# Altium integrated library Motorola RF Amplifier.IntLib: 5 symbols
Pins are listed as number, name and electrical type; pins without a type are passive.

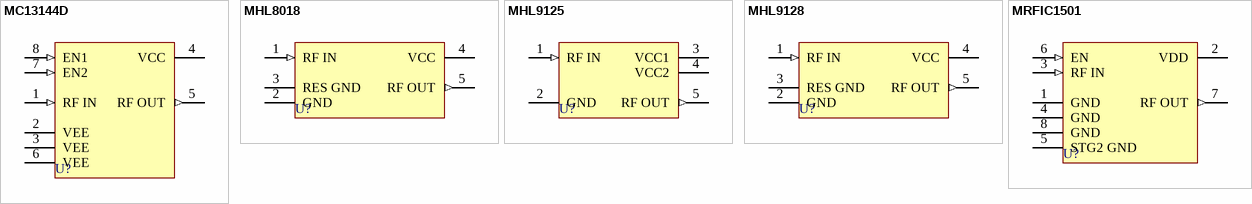
[diagram p0: symbols MC13144D to MRFIC1501]

## MC13144D
designator U?
VHF - 2.0 GHz Low-Noise Amplifier with Programmable Bias; Published: 28-Feb-2003; LatestRevisionDate: 13-Apr-2006; LatestRevisionNote: IPC-7351 Footprint Added.; DatasheetVersion: 1998, Rev. 1; PackageVersion: Sep-1999; PackageReference: 751-06; Publisher: Altium Limited; PackageDescription: 8-Pin Small Outline Integrated Circuit 1.27 mm Pitch; Code_JEDEC: MS-012-AA; Code_IPC: SOIC127P600-8; ComponentLink1Description: Manufacturer Link; ComponentLink1URL: http://www.freescale.com/webapp/sps/site/homepage.jsp?nodeId=014359
footprint 751-06_N (SOIC, 8-Leads, Body 4.9x3.9mm, Pitch 1.27mm, IPC Medium Density)
footprint 751-06_L (SOIC, 8-Leads, Body 4.9x3.9mm, Pitch 1.27mm, IPC High Density)
footprint 751-06_M (SOIC, 8-Leads, Body 4.9x3.9mm, Pitch 1.27mm, IPC Low Density)
3D model 751-06 (8-Pin Small Outline Integrated Circuit 1.27 mm Pitch)
pins: 1 RF IN (in), 2 VEE (power), 3 VEE (power), 4 VCC (power), 5 RF OUT (out), 6 VEE (power), 7 EN2 (in), 8 EN1 (in)

## MHL8018
designator U?
UHF Linear Amplifier; ComponentAvailability: Obsolete; Published: 28-Feb-2003; DatasheetVersion: 1999, Rev. 2; PackageVersion: rev2, 1999; PackageReference: 448-02; Publisher: Altium Limited; PackageDescription: Rectangular Flange Mount, Thru-Hole; 5 Leads; Pitch 5.08 mm; ComponentLink1Description: Manufacturer Link; ComponentLink1URL: http://www.freescale.com/webapp/sps/site/homepage.jsp?nodeId=014359; ComponentLink2Description: Datasheet; ComponentLink2URL: http://www.freescale.com/files/archives/doc/data_sheet/MHL8018_D.pdf
footprint 448-02 (Rectangular Flange Mount, Thru-Hole; 5 Leads; Pitch 5.08 mm)
pins: 1 RF IN (in), 2 GND (power), 3 RES GND, 4 VCC (power), 5 RF OUT (out)

## MHL9125
designator U?
UHF Linear Amplifier; ComponentAvailability: Obsolete; Published: 28-Feb-2003; DatasheetVersion: 1998, Rev. 2; PackageVersion: rev2, 1999; PackageReference: 448-02; Publisher: Altium Limited; PackageDescription: Rectangular Flange Mount, Thru-Hole; 5 Leads; Pitch 5.08 mm; ComponentLink1Description: Manufacturer Link; ComponentLink1URL: http://www.freescale.com/webapp/sps/site/homepage.jsp?nodeId=014359; ComponentLink2Description: Datasheet; ComponentLink2URL: http://www.freescale.com/files/archives/doc/data_sheet/MHL9125_D.pdf
footprint 448-02 (Rectangular Flange Mount, Thru-Hole; 5 Leads; Pitch 5.08 mm)
pins: 1 RF IN (in), 2 GND (power), 3 VCC1 (power), 4 VCC2 (power), 5 RF OUT (out)

## MHL9128
designator U?
UHF Linear Amplifier; ComponentAvailability: Obsolete; Published: 28-Feb-2003; DatasheetVersion: 1998, Rev. 2; PackageVersion: rev2, 1999; PackageReference: 448-02; Publisher: Altium Limited; PackageDescription: Rectangular Flange Mount, Thru-Hole; 5 Leads; Pitch 5.08 mm; ComponentLink1Description: Manufacturer Link; ComponentLink1URL: http://www.freescale.com/webapp/sps/site/homepage.jsp?nodeId=014359; ComponentLink2Description: Datasheet; ComponentLink2URL: http://www.freescale.com/files/archives/doc/data_sheet/MHL9128_D.pdf
footprint 448-02 (Rectangular Flange Mount, Thru-Hole; 5 Leads; Pitch 5.08 mm)
pins: 1 RF IN (in), 2 GND (power), 3 RES GND, 4 VCC (power), 5 RF OUT (out)

## MRFIC1501
designator U?
GPS GaAs Low-Noise Amplifier; Published: 28-Feb-2003; LatestRevisionDate: 13-Apr-2006; LatestRevisionNote: IPC-7351 Footprint Added.; DatasheetVersion: 1998, Rev. 2; PackageVersion: Sep-1999; PackageReference: 751-06; Publisher: Altium Limited; PackageDescription: 8-Pin Small Outline Integrated Circuit 1.27 mm Pitch; Code_JEDEC: MS-012-AA; Code_IPC: SOIC127P600-8; ComponentLink1Description: Manufacturer Link; ComponentLink1URL: http://www.freescale.com/webapp/sps/site/homepage.jsp?nodeId=014359
footprint 751-06_N (SOIC, 8-Leads, Body 4.9x3.9mm, Pitch 1.27mm, IPC Medium Density)
footprint 751-06_L (SOIC, 8-Leads, Body 4.9x3.9mm, Pitch 1.27mm, IPC High Density)
footprint 751-06_M (SOIC, 8-Leads, Body 4.9x3.9mm, Pitch 1.27mm, IPC Low Density)
3D model 751-06 (8-Pin Small Outline Integrated Circuit 1.27 mm Pitch)
pins: 1 GND (power), 2 VDD (power), 3 RF IN (in), 4 GND (power), 5 STG2 GND (power), 6 EN (in), 7 RF OUT (out), 8 GND (power)